# Altium footprint library PCB - IC-Sensors - ADT7410.PcbLib: 1 footprints
Each footprint in its own frame and in the unit in brackets; x right, y up, seen from the top. Pads: shape width x height; smd on the part's side, far side on the other; paste and mask are expansions set on the pad; w line width, h text height; cw(c..) or ccw(c..) is an arc to the next point about the centre after c.
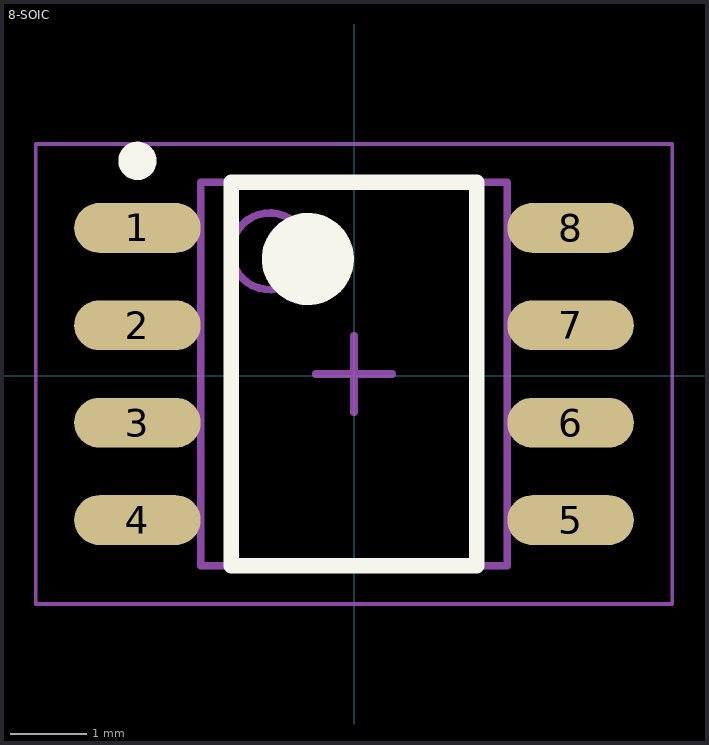
[diagram p0: the footprint, top view; thin cyan lines are the x and y axes]

## 8-SOIC [mm]
pads (8):
  oval 1.65x0.65 smd: 1(-2.825,1.93) 2(-2.825,0.66) 3(-2.825,-0.61) 4(-2.825,-1.88) 5(2.825,-1.88) 6(2.825,-0.61) 7(2.825,0.66) 8(2.825,1.93)
Top Overlay:
  circle w0.6: c-0.6,1.525 r0.3
  circle w0.25: c-2.825,2.805 r0.125
  lines w0.2: -1.6,-2.475 1.6,-2.475 1.6,2.525 -1.6,2.525 -1.6,-2.475
Mechanical 2:
  circle w0.1: c-1.1,1.625 r0.5
  lines w0.1: -2,-2.475 2,-2.475 2,2.525 -2,2.525 -2,-2.475
Mechanical 4:
  lines w0.05: -4.15,-2.975 4.15,-2.975 4.15,3.025 -4.15,3.025 -4.15,-2.975
  lines w0.1: -0.5,0.025 0.5,0.025 ; 0,-0.475 0,0.525
3D body "ADT7410.step": height 1.75, standoff 0, extent -3,-2.475 3,2.525